# EAGLE library part TPS61240 (library machine_science2)
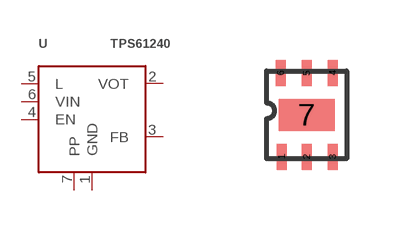
[diagram p4: symbol with the pads of SON-6-TP; footprint SON-6-TP]

Designator prefix -

## TPS61240  [SON-6-TP]
1  GND
2  VOT
3  FB
4  EN
5  L
6  VIN
7  PP

## Footprint SON-6-TP (pad centres in mm)
smd 0.25 x 0.65: 1 -0.625,-1.05; 2 0,-1.05; 3 0.65,-1.05; 4 0.65,1.05; 5 0,1.05; 6 -0.65,1.05
smd 1.4 x 0.8: 7 0,0